# Altium footprint library Footprints.PcbLib: 6 footprints
Each footprint in its own frame and in the unit in brackets; x right, y up, seen from the top. Pads: shape width x height; smd on the part's side, far side on the other; paste and mask are expansions set on the pad; w line width, h text height; cw(c..) or ccw(c..) is an arc to the next point about the centre after c.
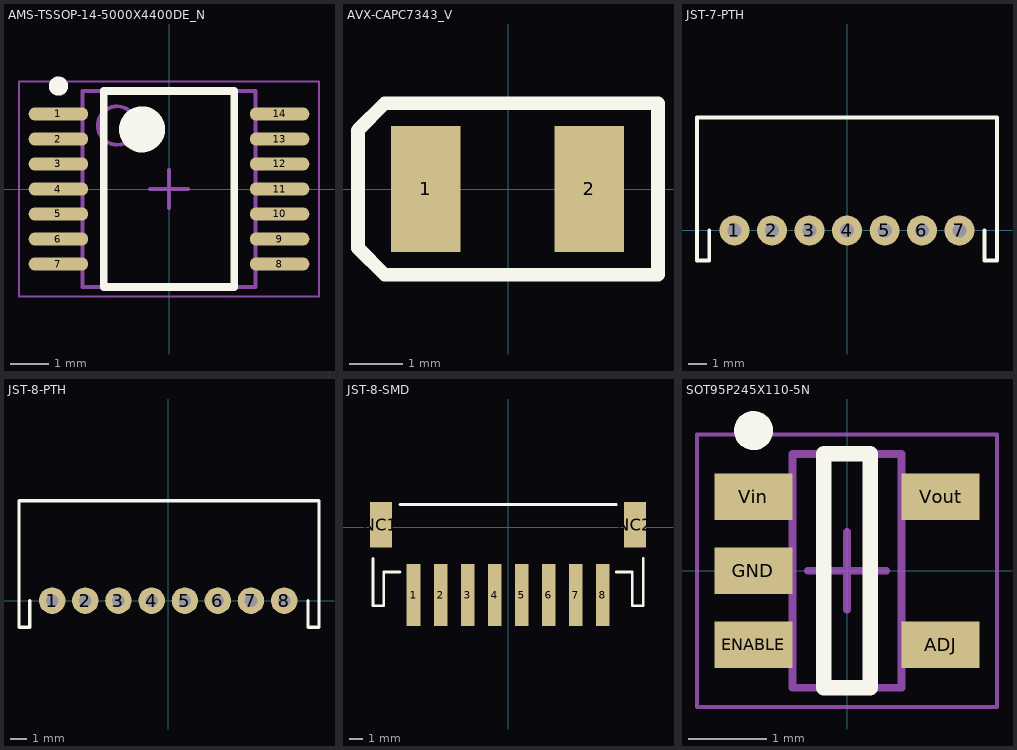
[diagram p0: the footprints below, top view; thin cyan lines are the x and y axes]

## AMS-TSSOP-14-5000X4400DE_N [mm] "TSOP, 14-Leads, Body 5.00x4.40mm, Pitch 0.65mm, IPC Medium Density"
height 1.2
pads (14):
  oval 1.55x0.35 smd: 1(-2.875,1.95) 2(-2.875,1.3) 3(-2.875,0.65) 4(-2.875,0) 5(-2.875,-0.65) 6(-2.875,-1.3) 7(-2.875,-1.95) 8(2.875,-1.95) 9(2.875,-1.3) 10(2.875,-0.65) 11(2.875,0) 12(2.875,0.65) 13(2.875,1.3) 14(2.875,1.95)
Top Overlay:
  circle w0.25: c-2.875,2.675 r0.125
  circle w0.6: c-0.7,1.55 r0.3
  lines w0.2: -1.7,-2.55 -1.7,2.55 1.7,2.55 1.7,-2.55 -1.7,-2.55
Mechanical 13:
  circle w0.1: c-1.35,1.65 r0.5
  lines w0.1: -2.25,-2.55 -2.25,2.55 2.25,2.55 2.25,-2.55 -2.25,-2.55
Mechanical 15:
  lines w0.05: -3.9,-2.8 -3.9,2.8 3.9,2.8 3.9,-2.8 -3.9,-2.8
  lines w0.1: -0.5,0 0.5,0 ; 0,-0.5 0,0.5
3D body: height 1.2, standoff 0.05, extent -2.25,-2.55 2.25,2.55

## AVX-CAPC7343_V [mm] "SMT Capacitor, 2 Leads, Body 7.3x4.3mm"
pads (2):
  rect 1.3x2.35 smd: 1(-1.535,0.001) 2(1.515,0.001)
Top Overlay:
  lines w0.254: -2.8,-1.1 -2.3,-1.6 2.8,-1.6 2.8,1.597 -2.299,1.601 -2.8,1.1 -2.8,-1.1
3D body: height 1.9, standoff 0, extent -2.1,-1.1 2.1,1.1

## JST-7-PTH [mil]
pads (7):
  round 63 hole 30: 1(-236.48,0) 2(-157.74,0) 3(-79,0) 4(0,0) 5(79,0) 6(157.22,0) 7(235.96,0)
Top Overlay:
  lines w8: -315.22,237 -315.22,-62.99 -289.63,-62.99 -289.63,0 ; -314.96,237 314.96,237 314.96,-62.99 288.96,-62.99 288.96,0
3D body "B7B-PH-SM4-TB.STEP": height 197.5, standoff -78.09, extent -353.35,-9.84 353.35,250

## JST-8-PTH [mil]
pads (8):
  round 63 hole 30: 1(-275.85,0) 2(-197.11,0) 3(-118.37,0) 4(-39.37,0) 5(39.63,0) 6(117.85,0) 7(196.59,0) 8(275.59,0)
Top Overlay:
  lines w8: -354.59,237 -354.59,-62.99 -329,-62.99 -329,0 ; -354.33,237 358.27,237 358.27,-62.99 332.27,-62.99 332.27,0

## JST-8-SMD [mil]
pads (10):
  rect 40x182 smd: 1(-275.59,-196.85) 2(-196.85,-196.85) 3(-118.11,-196.85) 4(-39.37,-196.85) 5(39.37,-196.85) 6(118.11,-196.85) 7(196.85,-196.85) 8(275.59,-196.85)
  rect 63x134 smd: NC1(-370.69,7.94) NC2(369.85,7.94)
Top Overlay:
  lines w8: -394.31,-90.55 -394.31,-228.35 -362.81,-228.35 -362.81,-129.92 -315.57,-129.92 ; -314.96,66.93 314.96,66.93 ; 314.85,-129.92 361.85,-129.92 361.85,-228.35 393.85,-228.35 393.85,-90.55
3D body "S8B-PH-SM4-TB.STEP": height 220.47, standoff 0, extent -391.73,-271.66 391.73,66.93

## SOT95P245X110-5N [mm] "SOT23, 5-Leads, Body 2.90x2.45mm, Pitch 0.95mm, IPC Medium Density"
height 1.1
pads (5):
  rect 1x0.6 smd: ADJ(1.2,-0.95) ENABLE(-1.2,-0.95) GND(-1.2,0) Vin(-1.2,0.95) Vout(1.2,0.95)
Top Overlay:
  circle w0.25: c-1.2,1.8 r0.125
  lines w0.2: -0.3,-1.5 -0.3,1.5 0.3,1.5 0.3,-1.5 -0.3,-1.5
Mechanical 13:
  lines w0.1: -0.7,-1.5 0.7,-1.5 0.7,1.5 -0.7,1.5 -0.7,-1.5
Mechanical 15:
  lines w0.05: -1.925,-1.75 1.925,-1.75 1.925,1.75 -1.925,1.75 -1.925,-1.75
  lines w0.1: -0.5,0 0.5,0 ; 0,-0.5 0,0.5
3D body: height 1.1, standoff 0.05, extent -0.7,-1.5 0.7,1.5